# EAGLE library part 74AC151 (library ds_ic_logic)
8-Line To 1-Line Data Selectors/Multiplexers
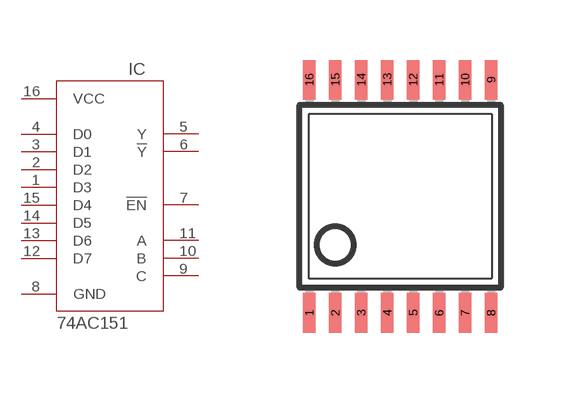
[diagram p17: symbol with the pads of TSSOP16; footprint TSSOP16]

Designator prefix IC

## 74AC151 (DATASHEET: https://www.ti.com/lit/ds/symlink/sn74hc151.pdf?ts=1749408396579&ref_url=https%253A%252F%252Fwww.google.com%252F; DESCRIPTION: -40℃~+85℃ 25ns@6V,50pF 2V~6V 7.8mA 7.8mA 80uA Single Supply TSSOP-16 Signal Switches, Multiplexers, Decoders ROHS; HQ_PART: IC0244620; LCSC_PART: C2653837; MANUFACTURER: Texas Instruments; MPN: SN74HC151PWR; ROHS: YES; VALUE: SN74HC151PWR)  [TSSOP16]
1  D3
2  D2
3  D1
4  D0
5  Y
6  !Y
7  !EN  in
8  GND  pwr
9  C  in
10  B  in
11  A  in
12  D7
13  D6
14  D5
15  D4
16  VCC  pwr

## Footprint TSSOP16 (pad centres in mm)
Thin Shrink Small Outline Plastic 16 MAX3223-MAX3243.pdf
smd 0.305 x 0.991: 1 -2.275,-2.918; 2 -1.625,-2.918; 3 -0.975,-2.918; 4 -0.325,-2.918; 5 0.325,-2.918; 6 0.975,-2.918; 7 1.625,-2.918; 8 2.275,-2.918; 9 2.275,2.918; 10 1.625,2.918; 11 0.975,2.918; 12 0.325,2.918; 13 -0.325,2.918; 14 -0.975,2.918; 15 -1.625,2.918; 16 -2.275,2.918